# EAGLE library part BH-18650-PC8 (library herman)
DigiKey: https://www.digikey.com/product-detail/en/mpd-memory-protection-devices/BK-18650-PC8/BK-18650-PC8-ND/2330515 http://www.memoryprotectiondevices.com/datasheets/BK-18650-PC8-datasheet.pdf
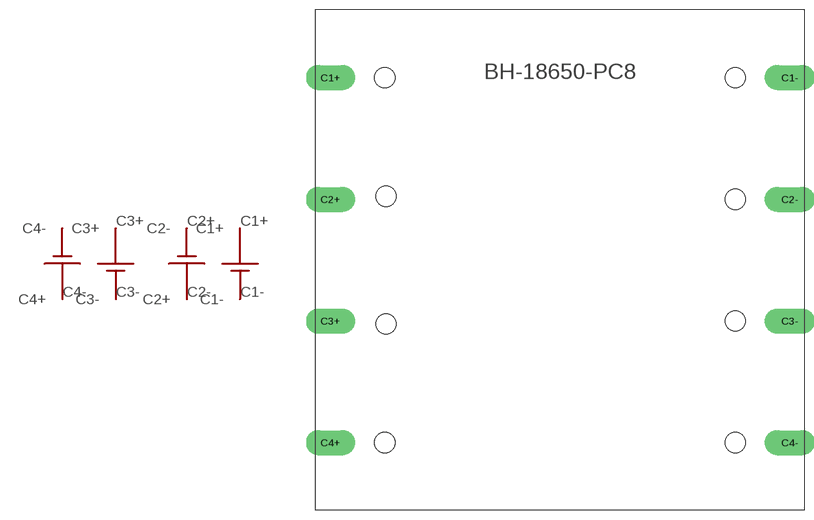
[diagram p0: symbol with the pads of BH-18650-PC8; footprint BH-18650-PC8]

Designator prefix -

## BH-18650-PC8  [BH-18650-PC8]
C1+  C1+
C1-  C1-
C2+  C2-
C2-  C2+
C3+  C3+
C3-  C3-
C4+  C4-
C4-  C4+

## Footprint BH-18650-PC8 (pad centres in mm)
drill 1.8 pad 4 long: C1+ -36.45,28.955; C1- 36.45,28.955; C2+ -36.45,9.65; C2- 36.45,9.65; C3+ -36.45,-9.65; C3- 36.45,-9.65; C4+ -36.45,-28.955; C4- 36.45,-28.955
hole 3.2 at -27.805,-28.955
hole 3.2 at -27.805,28.955
hole 3.2 at 27.805,28.955
hole 3.2 at 27.805,-28.955
hole 3.2 at -27.61,10.127
hole 3.2 at -27.61,-10.127
hole 3.2 at 27.805,9.65
hole 3.2 at 27.805,-9.65